# Altium integrated library WL-SWTC SMD White Top View Ceramic LED.IntLib: 5 symbols
Pins are listed as number, name and electrical type; pins without a type are passive.

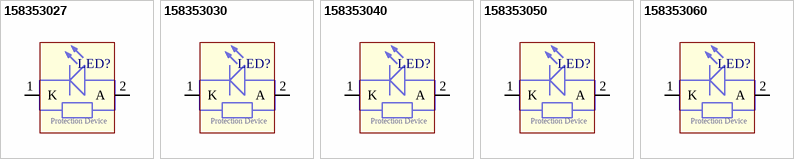
[diagram p0: symbols 158353027 to 158353060]

## 158353027
designator LED?
SMD White Top View Ceramic  LED, WL-SWTC, Sunrise; PartNumber: 158353027; Forward voltage (Typ): 3.2V; Continuous Forward Current: 700 mA; Reverse Voltage: 5V; PackageReference: WL-SWTC 3535; Emitting Color: Sunrise; ComponentLink1Description: Manufacturer URL; ComponentLink1URL: http://www.we-online.com; ComponentLink2Description: Datasheet; ComponentLink2URL: http://katalog.we-online.de/kataloge/eisos/media/pdf/158353027.pdf
footprint WL-SWTC 3535 (SMD-LED, 2Pin , Body 3.45x3.45mm)
pins: 1 K, 2 A
text: Protection Device

## 158353030
designator LED?
SMD White Top View Ceramic  LED, WL-SWTC, Warm White; PartNumber: 158353030; Forward voltage (Typ): 3.2V; Continuous Forward Current: 700 mA; Reverse Voltage: 5V; PackageReference: WL-SWTC 3535; Emitting Color: Warm White; ComponentLink1Description: Manufacturer URL; ComponentLink1URL: http://www.we-online.com; ComponentLink2Description: Datasheet; ComponentLink2URL: http://katalog.we-online.de/kataloge/eisos/media/pdf/158353030.pdf
footprint WL-SWTC 3535 (SMD-LED, 2Pin , Body 3.45x3.45mm)
pins: 1 K, 2 A
text: Protection Device

## 158353040
designator LED?
SMD White Top View Ceramic  LED, WL-SWTC, Moonlight; PartNumber: 158353040; Forward voltage (Typ): 3.2V; Continuous Forward Current: 700 mA; Reverse Voltage: 5V; PackageReference: WL-SWTC 3535; Emitting Color: Moonlight; ComponentLink1Description: Manufacturer URL; ComponentLink1URL: http://www.we-online.com; ComponentLink2Description: Datasheet; ComponentLink2URL: http://katalog.we-online.de/kataloge/eisos/media/pdf/158353040.pdf
footprint WL-SWTC 3535 (SMD-LED, 2Pin , Body 3.45x3.45mm)
pins: 1 K, 2 A
text: Protection Device

## 158353050
designator LED?
SMD White Top View Ceramic  LED, WL-SWTC, Daylight; PartNumber: 158353050; Forward voltage (Typ): 3.2V; Continuous Forward Current: 700 mA; Reverse Voltage: 5V; PackageReference: WL-SWTC 3535; Emitting Color: Daylight; ComponentLink1Description: Manufacturer URL; ComponentLink1URL: http://www.we-online.com; ComponentLink2Description: Datasheet; ComponentLink2URL: http://katalog.we-online.de/kataloge/eisos/media/pdf/158353050.pdf
footprint WL-SWTC 3535 (SMD-LED, 2Pin , Body 3.45x3.45mm)
pins: 1 K, 2 A
text: Protection Device

## 158353060
designator LED?
SMD White Top View Ceramic  LED, WL-SWTC, Cool White; PartNumber: 158353060; Forward voltage (Typ): 3.2V; Continuous Forward Current: 700 mA; Reverse Voltage: 5V; PackageReference: WL-SWTC 3535; Emitting Color: Cool White; ComponentLink1Description: Manufacturer URL; ComponentLink1URL: http://www.we-online.com; ComponentLink2Description: Datasheet; ComponentLink2URL: http://katalog.we-online.de/kataloge/eisos/media/pdf/158353060.pdf
footprint WL-SWTC 3535 (SMD-LED, 2Pin , Body 3.45x3.45mm)
pins: 1 K, 2 A
text: Protection Device